# EAGLE library part FEATHER-ESP8266 (library Coert-Vonk)
Footprint of Adafruit Feather HUZZAH ESP8266 ESP8266 WiFi development board with built in USB and battery charging. Source: https://www.adafruit.com/products/2821, https://learn.adafruit.com/adafruit-feather-huzzah-esp8266
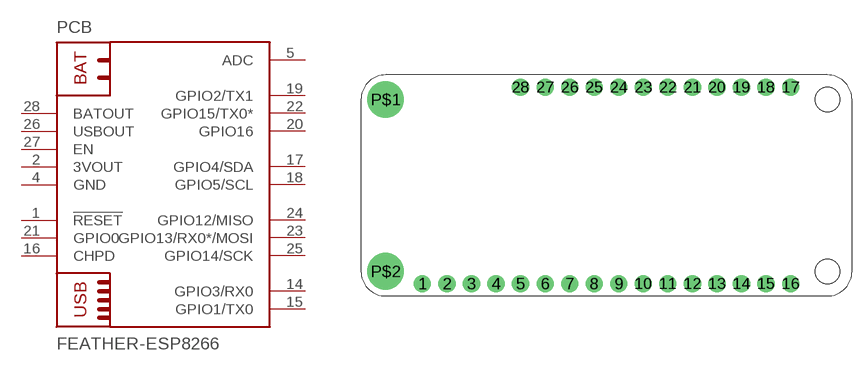
[diagram p0: symbol with the pads of FEATHER-ESP8266; footprint FEATHER-ESP8266]

Designator prefix PCB

## FEATHER-ESP8266  [FEATHER-ESP8266]
1  !RESET  in
2  3VOUT  sup
4  GND  pwr
5  ADC
14  GPIO3/RX0
15  GPIO1/TX0
16  CHPD  pas
17  GPIO4/SDA
18  GPIO5/SCL
19  GPIO2/TX1
20  GPIO16
21  GPIO0
22  GPIO15/TX0*
23  GPIO13/RX0*/MOSI
24  GPIO12/MISO
25  GPIO14/SCK
26  USBOUT  sup
27  EN  pas
28  BATOUT  sup

## Footprint FEATHER-ESP8266 (pad centres in mm)
Adafruit Feather HUZZAH ESP8266 ESP8266 WiFi development board with built in USB and battery charging. Source: https://www.adafruit.com/products/2821, https://learn.adafruit.com/adafruit-feather-huzzah-esp8266
drill 1 pad 1.778: 1 6.35,1.27; 2 8.89,1.27; 3 11.43,1.27; 4 13.97,1.27; 5 16.51,1.27; 6 19.05,1.27; 7 21.59,1.27; 8 24.13,1.27; 9 26.67,1.27; 10 29.21,1.27; 11 31.75,1.27; 12 34.29,1.27; 13 36.83,1.27; 14 39.37,1.27; 15 41.91,1.27; 16 44.45,1.27; 17 44.45,21.59; 18 41.91,21.59; 19 39.37,21.59; 20 36.83,21.59; 21 34.29,21.59; 22 31.75,21.59; 23 29.21,21.59; 24 26.67,21.59; 25 24.13,21.59; 26 21.59,21.59; 27 19.05,21.59; 28 16.51,21.59
drill 2.5 pad 3.81: P$1 2.54,20.32; P$2 2.54,2.54
hole 2.54 at 48.26,20.32
hole 2.54 at 48.26,2.54